# Altium schematic symbol library EL-sense_Supervisor.SchLib: 2 symbols
Pins are listed as number, name and electrical type; pins without a type are passive.

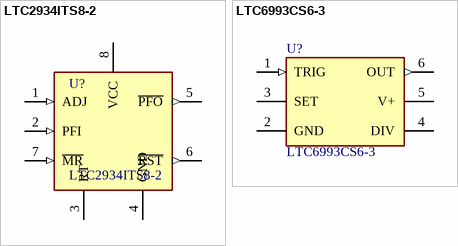
[diagram p0: symbols LTC2934ITS8-2 to LTC6993CS6-3]

## LTC2934ITS8-2
designator U?
Supervisor Push-Pull / Totem Pole 1 / Channel TSOT-23-8; Manufacturer: Analog Devices Inc.; Voltage - Threshold: Adjustable/Selectable; Output: Push-Pull, Totem Pole; Reset: Active Low; ComponentLink1Description: HelpURL; ComponentLink1URL: https://www.analog.com/media/en/technical-documentation/data-sheets/2934f.pdf; Case: SOT-23-8; Type: Simple Reset/Power-On Reset; Supplier 1: Digi-Key; Supplier Part Number 1: LTC2934ITS8-2#TRMPBFCT-ND
footprint SOT-23-8
pins: 1 ADJ (in), 2 PFI (in), 3 RT, 4 GND (power), 5 ~{PFO} (out), 6 ~{RST} (out), 7 ~{MR} (in), 8 VCC (power)

## LTC6993CS6-3
designator U?
Monostable Multivibrator 11 ns TSOT-23-6; Manufacturer: Analog Devices Inc.; Voltage - Supply: 2.25 V ~ 5.5 V; Current - Output High, Low: 16mA; Reset: Active Low; ComponentLink1Description: HelpURL; ComponentLink1URL: https://www.analog.com/media/en/technical-documentation/data-sheets/LTC6993-6993-1-6993-2-6993-3-6993-4.pdf; Case: SOT-23-6; Type: Monostable; Supplier 1: Mouser; Supplier Part Number 1: 584-C6993CS6-3TRMPBF
footprint SOT-23-6
pins: 1 TRIG (in), 2 GND (power), 3 SET, 4 DIV, 5 V+ (power), 6 OUT (out)